# EAGLE library part ESD5384 (library geusebio)
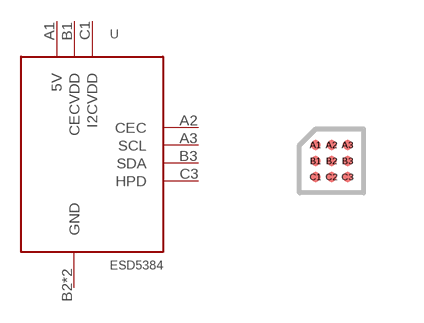
[diagram p13: symbol with the pads of WLCSP9; footprint WLCSP9]

Designator prefix -

## ESD5384  [WLCSP9]
A1  5V
A2  CEC
A3  SCL
B1  CECVDD
B2  GND
B3  SDA
C1  I2CVDD
C2  GND
C3  HPD

## Footprint WLCSP9 (pad centres in mm)
smd 0.25 x 0.25: A1 -0.4,0.4; A2 0,0.4; A3 0.4,0.4; B1 -0.4,0; B2 0,0; B3 0.4,0; C1 -0.4,-0.4; C2 0,-0.4; C3 0.4,-0.4